# Altium integrated library Dallas Communication CEPT T1 Interface.IntLib: 5 symbols
Pins are listed as number, name and electrical type; pins without a type are passive.

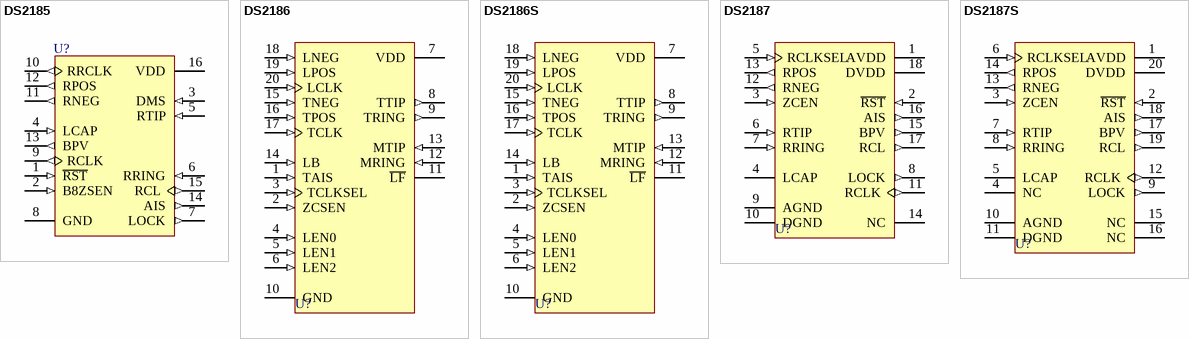
[diagram p0: symbols DS2185 to DS2187S]

## DS2185
designator U?
Receive Line Interface; PackageDocument: 1999; Published: 13-Oct-2000; LatestRevisionDate: 06-Jun-2005; LatestRevisionNote: Stylized 3D Model Added.; DatasheetDocument: 1988; PackageReference: DIP16; Publisher: Altium Limited; ComponentLink1Description: Manufacturer Link; ComponentLink1URL: http://www.maxim-ic.com/; ComponentLink2Description: Datasheet; ComponentLink2URL: http://pdfserv.maxim-ic.com/en/ds/DS2223-DS2224.pdf
footprint DIP16 (DIP; 16 Leads; Row Spacing 7.62 mm; Pitch 2.54 mm)
3D model DIP16 (DIP; 16 Leads; Row Spacing 7.62 mm; Pitch 2.54 mm)
pins: 1 ~{RST} (in), 2 B8ZSEN (in), 3 DMS (in), 4 LCAP (in), 5 RTIP (in), 6 RRING (in), 7 LOCK (out), 8 GND (power), 9 RCLK (out), 10 RRCLK (out), 11 RNEG (out), 12 RPOS (out), 13 BPV (out), 14 AIS (out), 15 RCL (out), 16 VDD (power)

## DS2186
designator U?
Transmit Line Interface; PackageDocument: 1999; Published: 13-Oct-2000; LatestRevisionDate: 06-Jun-2005; LatestRevisionNote: Stylized 3D Model Added.; DatasheetDocument: 27-Feb-1998; PackageReference: DIP20; Publisher: Altium Limited; Code_JEDEC: MS-001-AD; ComponentLink1Description: Manufacturer Link; ComponentLink1URL: http://www.maxim-ic.com/; ComponentLink2Description: Datasheet; ComponentLink2URL: http://pdfserv.maxim-ic.com/en/ds/DS2186.pdf
footprint DIP20 (DIP; 20 Leads; Row Spacing 7.62 mm; Pitch 2.54 mm)
3D model DIP20 (DIP; 20 Leads; Row Spacing 7.62 mm; Pitch 2.54 mm)
pins: 1 TAIS (in), 2 ZCSEN (in), 3 TCLKSEL (in), 4 LEN0 (in), 5 LEN1 (in), 6 LEN2 (in), 7 VDD (power), 8 TTIP (out), 9 TRING (out), 10 GND (power), 11 ~{LF} (hiz), 12 MRING (in), 13 MTIP (in), 14 LB (in), 15 TNEG (in), 16 TPOS (in), 17 TCLK (in), 18 LNEG (in), 19 LPOS (in), 20 LCLK (in)

## DS2186S
designator U?
Transmit Line Interface; PackageDocument: 1994; ComponentAvailability: Not for New Design; Published: 13-Oct-2000; LatestRevisionDate: 06-Jun-2005; LatestRevisionNote: Stylized 3D Model Added.; DatasheetDocument: 27-Feb-1998; PackageReference: SOIC20A; Publisher: Altium Limited; ComponentLink1Description: Manufacturer Link; ComponentLink1URL: http://www.maxim-ic.com/; ComponentLink2Description: Datasheet; ComponentLink2URL: http://pdfserv.maxim-ic.com/en/ds/DS2186.pdf
footprint SOIC20A (Small Outline; 20 Leads; Body Width 7.5 mm; Pitch 1.27 mm)
3D model SOIC20A (Small Outline; 20 Leads; Body Width 7.5 mm; Pitch 1.27 mm)
pins: 1 TAIS (in), 2 ZCSEN (in), 3 TCLKSEL (in), 4 LEN0 (in), 5 LEN1 (in), 6 LEN2 (in), 7 VDD (power), 8 TTIP (out), 9 TRING (out), 10 GND (power), 11 ~{LF} (hiz), 12 MRING (in), 13 MTIP (in), 14 LB (in), 15 TNEG (in), 16 TPOS (in), 17 TCLK (in), 18 LNEG (in), 19 LPOS (in), 20 LCLK (in)

## DS2187
designator U?
Receive Line Interface; PackageDocument: 1999; Note: Pin number 14 is Not Connected (NC); Published: 13-Oct-2000; LatestRevisionDate: 06-Jun-2005; LatestRevisionNote: Stylized 3D Model Added.; DatasheetDocument: 27-Feb-1998; PackageReference: DIP18; Publisher: Altium Limited; ComponentLink1Description: Manufacturer Link; ComponentLink1URL: http://www.maxim-ic.com/; ComponentLink2Description: Datasheet; ComponentLink2URL: http://pdfserv.maxim-ic.com/en/ds/DS2187.pdf
footprint DIP18 (DIP; 18 Leads; Row Spacing 7.62 mm; Pitch 2.54 mm)
3D model DIP18 (DIP; 18 Leads; Row Spacing 7.62 mm; Pitch 2.54 mm)
pins: 1 AVDD (power), 2 ~{RST} (in), 3 ZCEN (in), 4 LCAP, 5 RCLKSEL (in), 6 RTIP (in), 7 RRING (in), 8 LOCK (out), 9 AGND (power), 10 DGND (power), 11 RCLK (out), 12 RNEG (out), 13 RPOS (out), 14 NC, 15 BPV (out), 16 AIS (out), 17 RCL (out), 18 DVDD (power)

## DS2187S
designator U?
Receive Line Interface; PackageDocument: 1994; Note: Pin numbers 4, 15 and 16 are Not Connected (NC); Published: 13-Oct-2000; LatestRevisionDate: 06-Jun-2005; LatestRevisionNote: Stylized 3D Model Added.; DatasheetDocument: 27-Feb-1998; PackageReference: SOIC20A; Publisher: Altium Limited; ComponentLink1Description: Manufacturer Link; ComponentLink1URL: http://www.maxim-ic.com/; ComponentLink2Description: Datasheet; ComponentLink2URL: http://pdfserv.maxim-ic.com/en/ds/DS2187.pdf
footprint SOIC20A (Small Outline; 20 Leads; Body Width 7.5 mm; Pitch 1.27 mm)
3D model SOIC20A (Small Outline; 20 Leads; Body Width 7.5 mm; Pitch 1.27 mm)
pins: 1 AVDD (power), 2 ~{RST} (in), 3 ZCEN (in), 4 NC, 5 LCAP, 6 RCLKSEL (in), 7 RTIP (in), 8 RRING (in), 9 LOCK (out), 10 AGND (power), 11 DGND (power), 12 RCLK (out), 13 RNEG (out), 14 RPOS (out), 15 NC, 16 NC, 17 BPV (out), 18 AIS (out), 19 RCL (out), 20 DVDD (power)